# Altium schematic symbol library ECS-5032MV.SchLib: 1 symbol
Pins are listed as number, name and electrical type; pins without a type are passive.

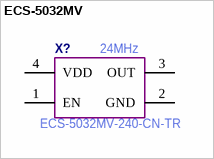
[diagram p0: symbol ECS-5032MV]

## ECS-5032MV
designator X?  Manufacturer Part Number: ECS-5032MV-240-CN-TR  Frequency: 24MHz  (hidden comment: *)
pins: 1 EN, 2 GND, 3 OUT, 4 VDD